# Altium integrated library 47uF16V.IntLib: 1 symbol
Pins are listed as number, name and electrical type; pins without a type are passive.

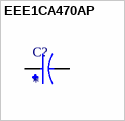
[diagram p0: symbol EEE1CA470AP]

## EEE1CA470AP
designator C?
47ÂµF 16V Aluminum Electrolytic Capacitors Radial, Can - SMD 2000 Hrs @ 85Â°C; MP: EEE-1CA470AP; MF: Panasonic; Availability: In Stock; Check_prices: https://www.snapeda.com/parts/EEE-1CA470AP/Panasonic/view-part/?ref=eda; SnapEDA_Link: https://www.snapeda.com/parts/EEE-1CA470AP/Panasonic/view-part/?ref=snap; Price: None; Value: *; Purchase-URL: https://pricing.snapeda.com/search/part/EEE-1CA470AP/?ref=eda; Package: RADIAL-2 Panasonic
footprint CAP_EEE1CA470AP
pins: 1, 2